# Altium schematic symbol library SCH - MCU - NUVOTON - NUVOTON MS51BA9AE.SchLib: 1 symbol
Pins are listed as number, name and electrical type; pins without a type are passive.

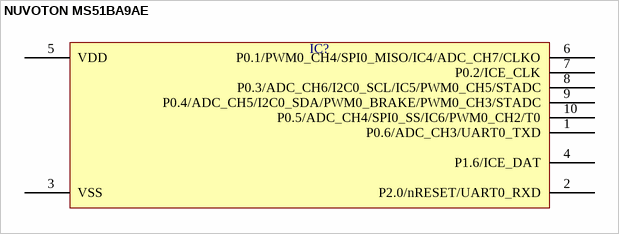
[diagram p0: symbol NUVOTON MS51BA9AE]

## NUVOTON MS51BA9AE
designator IC?  (value not drawn)
pins: 1 P0.6/ADC_CH3/UART0_TXD, 2 P2.0/nRESET/UART0_RXD, 3 VSS, 4 P1.6/ICE_DAT, 5 VDD, 6 P0.1/PWM0_CH4/SPI0_MISO/IC4/ADC_CH7/CLKO, 7 P0.2/ICE_CLK, 8 P0.3/ADC_CH6/I2C0_SCL/IC5/PWM0_CH5/STADC, 9 P0.4/ADC_CH5/I2C0_SDA/PWM0_BRAKE/PWM0_CH3/STADC, 10 P0.5/ADC_CH4/SPI0_SS/IC6/PWM0_CH2/T0